# Altium footprint library PCB_Lib.PcbLib: 296 footprints (part 3 of 19)
Each footprint in its own frame and in the unit in brackets; x right, y up, seen from the top. Pads: shape width x height; smd on the part's side, far side on the other; paste and mask are expansions set on the pad; w line width, h text height; cw(c..) or ccw(c..) is an arc to the next point about the centre after c.
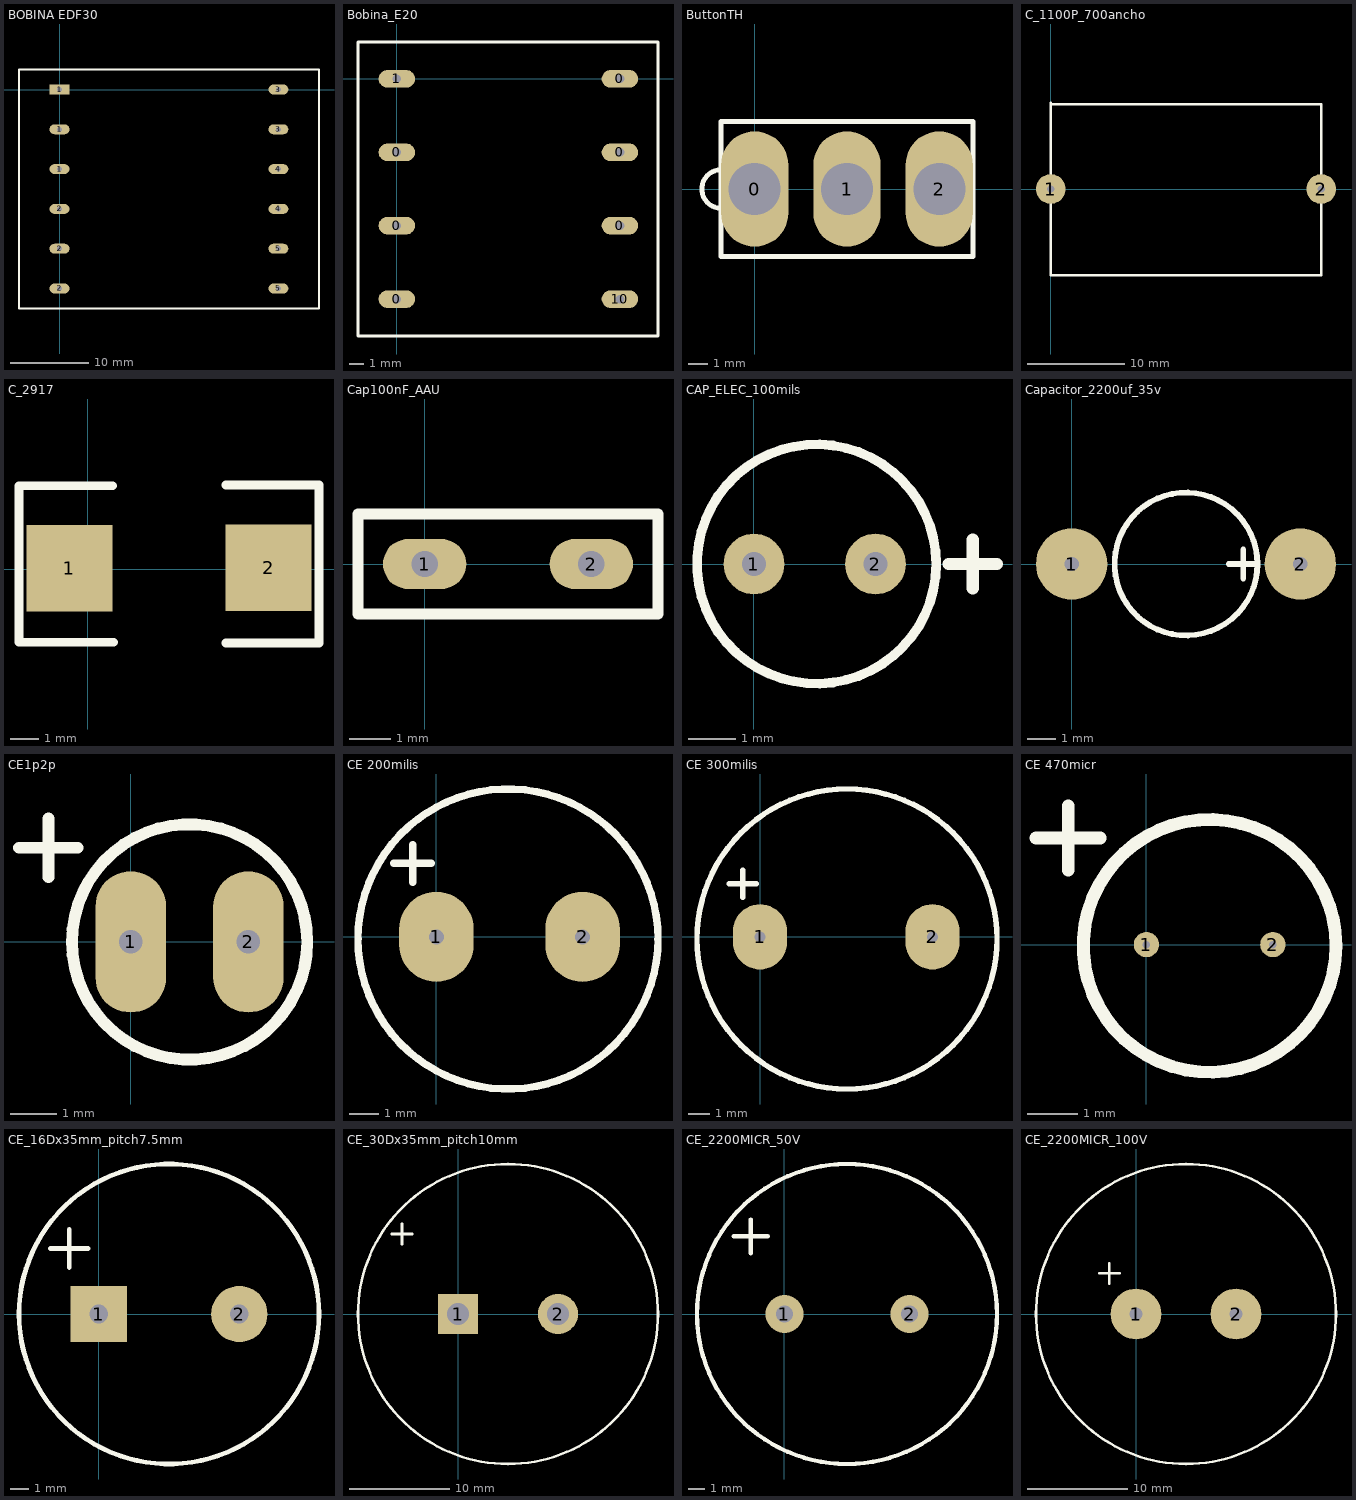
[diagram p2: the footprints below, top view; thin cyan lines are the x and y axes]

## BOBINA EDF30 [mil]
pads (12):
  oval 100x50 hole 25: 1(0,-400) 1(0,-200) 2(0,-1000) 2(0,-800) 2(0,-600) 3(1100,-200) 3(1100,0) 4(1100,-600) 4(1100,-400) 5(1100,-1000) 5(1100,-800)
  rect 100x50 hole 25: 1(0,0)
Top Overlay:
  lines w10: 600,100 1304.13,100 1304.13,-1100 -203.74,-1100 -203.74,100 743.11,100

## Bobina_E20 [mm]
pads (8):
  oval 2.5x1.2 hole 0.6: 0(0,-15.06) 0(0,-10.04) 0(0,-5.02) 0(15.25,-10.04) 0(15.25,-5.02) 0(15.25,0) 1(0,0) 10(15.25,-15.06)
Top Overlay:
  lines w0.2: 8.88,2.51 17.85,2.51 17.85,-17.57 -2.65,-17.57 -2.65,2.51 9.075,2.51

## ButtonTH [mm]
pads (3):
  oval 3.5x6 hole 2.7: 0(0,0) 1(4.8,0) 2(9.6,0)
Top Overlay:
  lines w0.254: -1.75,-1 cw(c-1.75,0) -1.75,1 ; -1.75,-3.5 -1.75,3.5 11.35,3.5 11.35,-3.5 -1.75,-3.5

## C_1100P_700ancho [mil] "Condensador MKP cuadrado"
height 1000
pads (2):
  round 120 hole 30: 1(0,0) 2(1100,0)
Top Overlay:
  lines w10: 0,345 1100,345 1100,-350 0,-350 0,350

## C_2917 [mm] "SMD R&C"
pads (2):
  rect 3x3 smd: 1(-0.635,0.025) 2(6.274,0.051)
Top Overlay:
  lines w0.305: 0.864,2.896 -2.388,2.896 -2.388,-2.54 0.889,-2.54 ; 4.801,-2.565 8.026,-2.565 8.026,2.921 4.801,2.921

## Cap100nF_AAU [mm] "10nF 1600v"
height 15
pads (2):
  oval 2x1.2 hole 0.635: 1(0,0) 2(4,0)
Top Overlay:
  lines w0.254: -1.6,-1.2 -1.6,1.2 5.6,1.2 5.6,-1.2 -1.6,-1.2

## CAP_ELEC_100mils [mm]
pads (2):
  round 1.27 hole 0.5: 1(0,0) 2(2.54,0)
Top Overlay:
  circle w0.2: c1.31,0 r2.5
  lines w0.254: 4.064,0 5.08,0 ; 4.572,-0.508 4.572,0.508

## Capacitor_2200uf_35v [mm]
pads (2):
  round 2.5 hole 0.5: 1(0,0) 2(8,0)
Top Overlay:
  circle w0.2: c4,0 r2.5
  lines w0.2: 5.492,0 6.508,0 ; 6,-0.508 6,0.508

## CE1p2p [mil] "CE 1p entre pines 2p circunferencia"
pads (2):
  oval 60x120 hole 20: 1(0,0) 2(100,0)
Top Overlay:
  circle w10: c50,0 r100
  lines w10: -95,80 -45,80 ; -70,55 -70,105

## CE 200milis [mil]
pads (2):
  oval 99.37x120 hole 20: 1(0,0) 2(194.88,0)
Top Overlay:
  circle w10: c95.47,-2.95 r200
  lines w10: -56.61,97.72 -6.61,97.72 ; -31.5,72.83 -31.5,122.83

## CE 300milis [mil]
pads (2):
  oval 99.37x120 hole 20: 1(0,0) 2(316.93,0)
Top Overlay:
  circle w10: c159.84,-3.94 r275.59
  lines w10: -56.61,97.72 -6.61,97.72 ; -31.5,72.83 -31.5,122.83

## CE 470micr [mm]
pads (2):
  round 0.5 hole 0.15: 1(0,0) 2(2.5,0)
Top Overlay:
  circle w0.254: c1.25,-0.025 r2.5
  lines w0.254: -2.184,2.108 -0.914,2.108 ; -1.546,1.476 -1.546,2.746

## CE_16Dx35mm_pitch7.5mm [mm]
pads (2):
  rect 3x3 hole 1: 1(0,0)
  round 3 hole 1: 2(7.5,0)
Top Overlay:
  circle w0.254: c3.75,0 r8
  lines w0.254: -2.588,3.5 -0.556,3.5 ; -1.572,2.484 -1.572,4.516

## CE_30Dx35mm_pitch10mm [mm]
pads (2):
  rect 4x4 hole 2.2: 1(0,0)
  round 4 hole 2.2: 2(10,0)
Top Overlay:
  circle w0.254: c5,0 r15
  lines w0.254: -6.616,8 -4.584,8 ; -5.6,6.984 -5.6,9.016

## CE_2200MICR_50V [mil]
pads (2):
  round 90 hole 40: 1(0,0) 2(295.28,0)
Top Overlay:
  circle w10: c147.64,0 r354.33
  lines w10: -119.69,183.43 -39.69,183.43 ; -79.69,143.43 -79.69,223.43

## CE_2200MICR_100V [mm]
pads (2):
  round 5.08 hole 1.27: 1(0,0) 2(10,0)
Top Overlay:
  circle w0.254: c5,0 r15
  lines w0.254: -3.683,4.064 -1.651,4.064 ; -2.667,3.048 -2.667,5.08